# Altium schematic symbol library Sensor Module.SchLib: 2 symbols
Pins are listed as number, name and electrical type; pins without a type are passive.

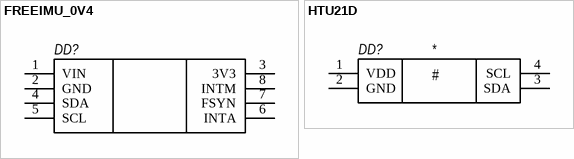
[diagram p0: symbols FREEIMU_0V4 to HTU21D]

## FREEIMU_0V4
designator DD?
FREEIMU_0V4
footprint Freeimu_0v4
pins: 1 VIN, 2 GND, 3 3V3, 4 SDA, 5 SCL, 6 INTA, 7 FSYN, 8 INTM

## HTU21D
designator DD?
pins: 1 VDD, 2 GND, 3 SDA, 4 SCL
text: #